# EAGLE library part INA213CQDCKRQ1 (library SamacSys_Parts)
INA21x-Q1 Automotive-Grade, Voltage Output, Low-Side or High-Side Measurement, Bidirectional, Zero-Drift Series, Current-Shunt Monitors Source: Datasheet <http://www.ti.com/lit/gpn/ina213-q1>
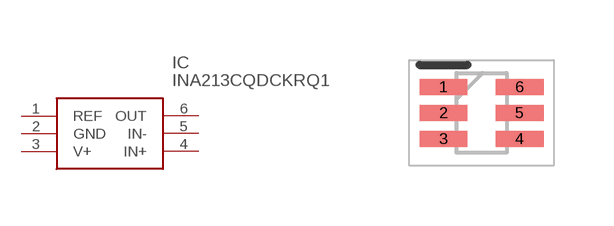
[diagram p1: symbol with the pads of SOT65P210X110-6N; footprint SOT65P210X110-6N]

Designator prefix IC

## INA213CQDCKRQ1 (Description: INA21x-Q1 Automotive-Grade, Voltage Output, Low-Side or High-Side Measurement, Bidirectional, Zero-Drift Series, Current-Shunt Monitors; Height: 1.1mm; Manufacturer_Name: Texas Instruments; Manufacturer_Part_Number: INA213CQDCKRQ1; Mouser_Part_Number: 595-INA213CQDCKRQ1; Mouser_Price-Stock: https://www.mouser.co.uk/ProductDetail/Texas-Instruments/INA213CQDCKRQ1?qs=9lcNTSmDlCqYPqOC94BXsQ%3D%3D)  [SOT65P210X110-6N]
1  REF
2  GND
3  V+
4  IN+
5  IN-
6  OUT

## Footprint SOT65P210X110-6N (pad centres in mm)
DCK (R-PDSO-G6)-1
smd 1.2 x 0.4: 1 -0.95,0.65; 2 -0.95,0; 3 -0.95,-0.65; 4 0.95,-0.65; 5 0.95,0; 6 0.95,0.65